# Altium schematic symbol library LTC2057_8P.SchLib: 1 symbol
Pins are listed as number, name and electrical type; pins without a type are passive.

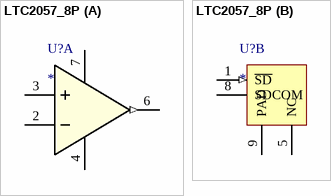
[diagram p0: symbol LTC2057_8P]

## LTC2057_8P
designator U?
Low noise Zero-Drift OA 8-pin package symbol
part A pins: 2 -IN (hiz) "Inverting Input", 3 +IN (hiz) "Noninverting Input", 4 V- (power) "Negative Supply", 6 OUT (out) "Output", 7 V+ (power) "Positive Supply"
part B pins: 1 ~{SD} (in) "Shutdown - Active Low", 5 NC "no connect", 8 SDCOM (power) "Shutdown common reference", 9 PAD (power) "Exposed pad - connect to V-"